# Altium schematic symbol library malvega_pcb.SchLib: 53 symbols
Pins are listed as number, name and electrical type; pins without a type are passive.

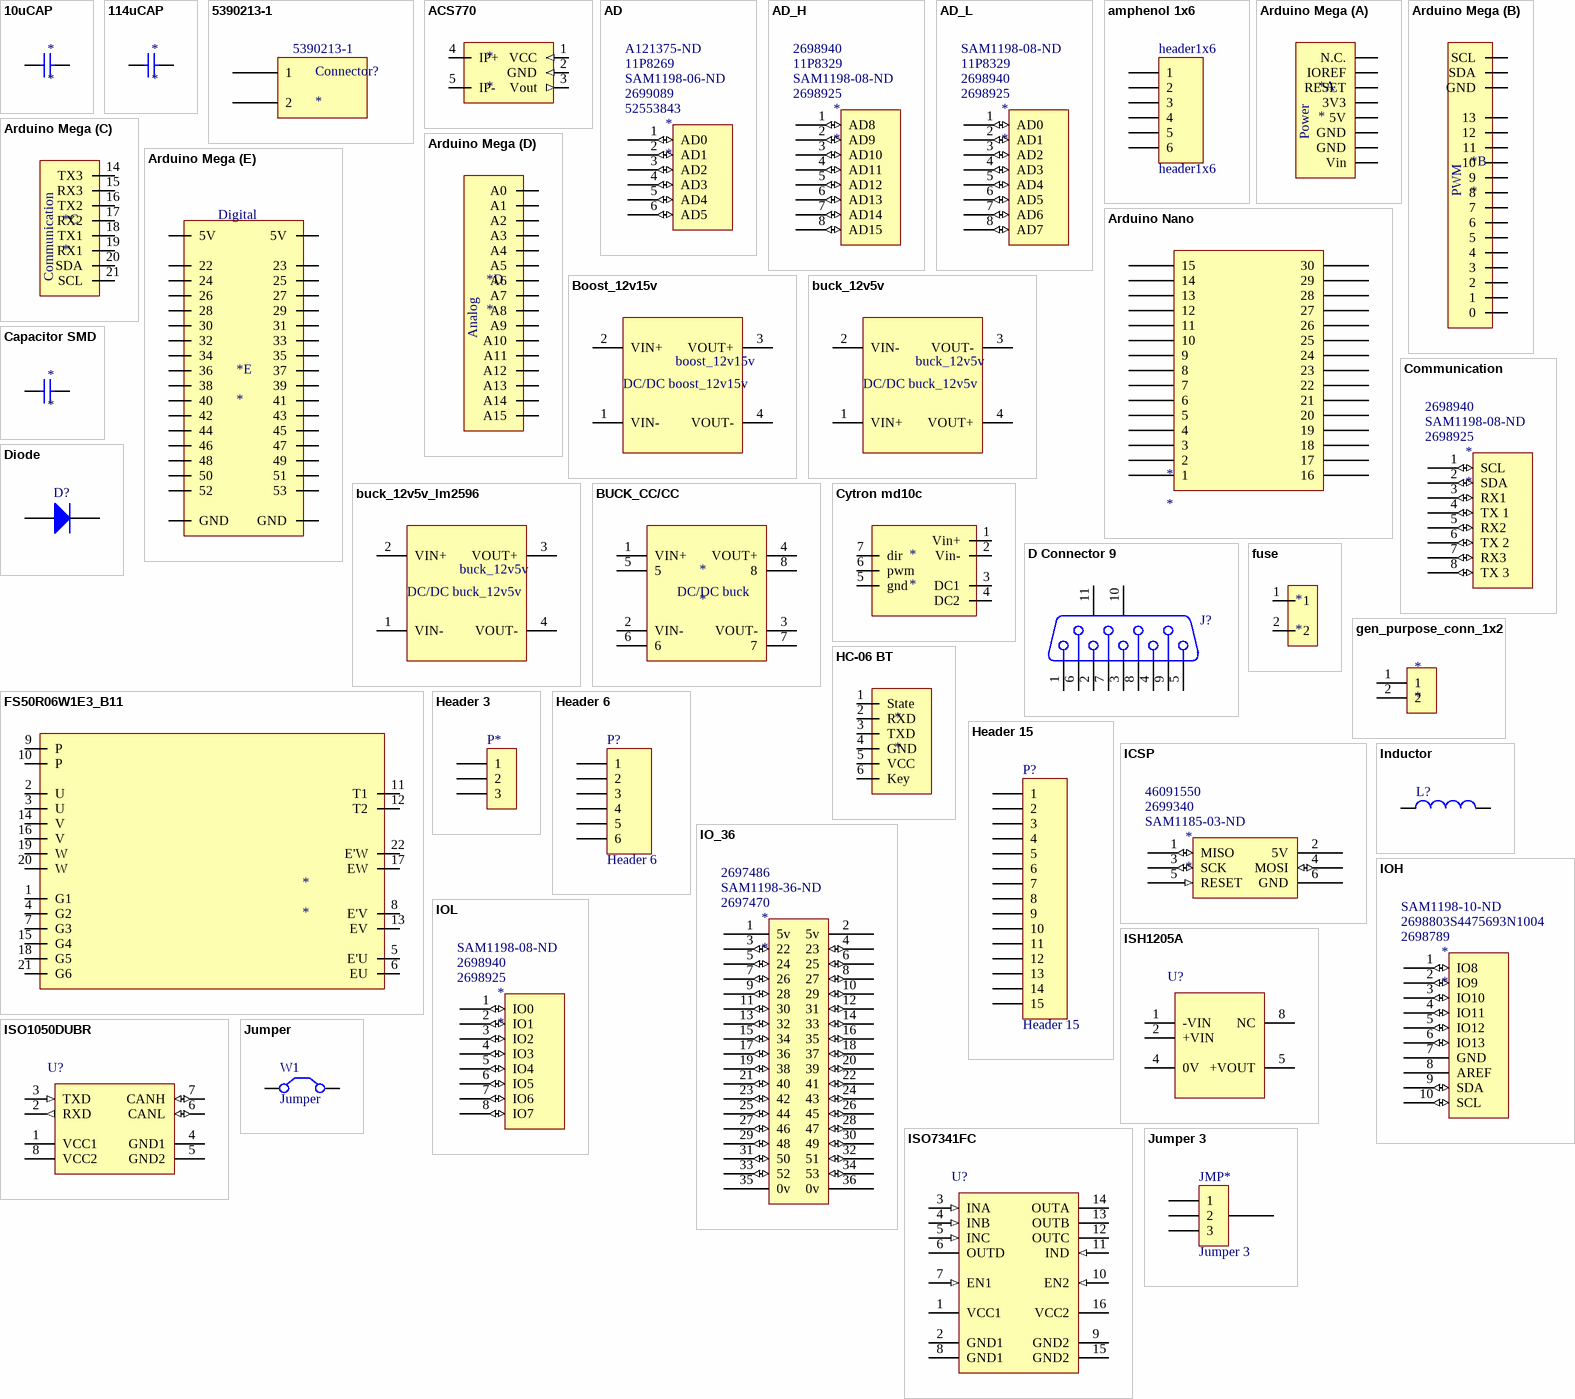
[diagram p0: symbols 10uCAP to Jumper 3]

## 10uCAP
designator *
VPN: 75-MKP1848610704K2
footprint 10uCAP
pins: 1, 2

## 114uCAP
designator *
VPN: 505-DCP5-114/900/10
footprint 114uCAP (10uCAP)
pins: 1, 2

## 5390213-1
designator Connector?  Manufacturer Part Number: 5390213-1
CONN SKT DIMM 100POS PCB; Manufacturer: TE Connectivity AMP Connectors; Number of Positions: 100; Memory Type: DRAM; Standards: MO-161; Supplier 1: Digi-Key; RoHS: RoHS Compliant; Category: Connectors, Interconnects; Stock 1: 880; Pricing 1: 1=3.8, 10=3.648, 50=3.1916, 100=3.0397, 250=2.65972, 500=2.58372, 1000=2.20377, 2500=2.05178 (EUR); Packaging: Tube; Part Status: Active; Connector Style: DIMM; Mounting Type: Through Hole; Features: Board Guide, Latches; Mounting Feature: Normal, Standard - Top; Contact Finish: Gold; Contact Finish Thickness: 15µin (0.38µm); ComponentLink1URL: http://www.te.com/commerce/DocumentDelivery/DDEController?Action=srchrtrv&DocNm=5390213&DocType=Customer+Drawing&DocLang=English; ComponentLink1Description: http://www.te.com/commerce/DocumentDelivery/DDEController?Action=srchrtrv&DocNm=5390213&DocType=Customer+Drawing&DocLang=English; Supplier Part Number 1: A121375-ND
pins: 1, 2

## ACS770
designator *
footprint ACS770 (Connector; Header; 3 Position)
pins: 1 VCC (in), 2 GND (in), 3 Vout (out), 4 IP+ (power), 5 IP- (power)

## AD
designator *  Supplier Part Number 1: 52553843  Supplier Part Number 2: 2699089  Supplier Part Number 3: SAM1198-06-ND  Supplier Part Number 4: 11P8269  Supplier Part Number 5: A121375-ND
Supplier 1: Arrow; Supplier 2: Arrow; Supplier 3: Digi-Key; Supplier 4: Newark; Supplier 5: Digi-Key
footprint Header 6x1 8.5mm (Stackable 6 pin header)
pins: 1 AD0 (io), 2 AD1 (io), 3 AD2 (io), 4 AD3 (io), 5 AD4 (io), 6 AD5 (io)

## AD_H
designator *  Supplier Part Number 1: 2698925  Supplier Part Number 2: SAM1198-08-ND  Supplier Part Number 3: 11P8329  Supplier Part Number 4: 2698940
Supplier 1: Arrow; Supplier 2: Digi-Key; Supplier 3: Newark; Supplier 4: Arrow
footprint Header 8x1 8.5mm (Stackable 8 pin header)
pins: 1 AD8 (io), 2 AD9 (io), 3 AD10 (io), 4 AD11 (io), 5 AD12 (io), 6 AD13 (io), 7 AD14 (io), 8 AD15 (io)

## AD_L
designator *  Supplier Part Number 1: 2698925  Supplier Part Number 2: 2698940  Supplier Part Number 3: 11P8329  Supplier Part Number 4: SAM1198-08-ND
Supplier 1: Arrow; Supplier 2: Arrow; Supplier 3: Newark; Supplier 4: Digi-Key
footprint Header 8x1 8.5mm (Stackable 8 pin header)
pins: 1 AD0 (io), 2 AD1 (io), 3 AD2 (io), 4 AD3 (io), 5 AD4 (io), 6 AD5 (io), 7 AD6 (io), 8 AD7 (io)

## amphenol 1x6
designator header1x6, comment header1x6
Header, 6-Pin; LatestRevisionDate: 17-Jul-2002; LatestRevisionNote: Re-released for DXP Platform.; Publisher: Altium Limited
footprint amphenol 1x6 (Stackable 6 pin header)
pins: 1, 2, 3, 4, 5, 6

## Arduino Mega
designator *
footprint Arduino Mega
part A pins: 3V3, 5V, GND1 GND, GND2 GND, IOREF, NC N.C., RESET, Vin
part B pins: 0, 1, 2, 3, 4, 5, 6, 7, 8, 9, 10, 11, 12, 13, GND3 GND, SCL, SDA
part C pins: 14 TX3, 15 RX3, 16 TX2, 17 RX2, 18 TX1, 19 RX1, 20 SDA, 21 SCL
part D pins: A0, A1, A2, A3, A4, A5, A6, A7, A8, A9, A10, A11, A12, A13, A14, A15
part E pins: 5V_2 5V, 5V_3 5V, 22, 23, 24, 25, 26, 27, 28, 29, 30, 31, 32, 33, 34, 35, 36, 37, 38, 39, 40, 41, 42, 43, 44, 45, 46, 47, 48, 49, 50, 51, 52, 53, GND4 GND, GND5 GND
part A text: Power
part B text: PWM
part C text: Communication
part D text: Analog
part E text: Digital

## Arduino Nano
designator *
footprint ARDUINO NANO
pins: 1, 2, 3, 4, 5, 6, 7, 8, 9, 10, 11, 12, 13, 14, 15, 16, 17, 18, 19, 20, 21, 22, 23, 24, 25, 26, 27, 28, 29, 30

## Boost_12v15v
designator boost_12v15v  (value not drawn)
footprint Boost_conv_12/15V
pins: 1 VIN- (power) "1", 2 VIN+ "2", 3 VOUT+ (power) "4", 4 VOUT- (power) "4"
text: DC/DC boost_12v15v

## buck_12v5v
designator buck_12v5v  (value not drawn)
footprint Buck_conv_12/5V
pins: 1 VIN+ (power) "1", 2 VIN- "2", 3 VOUT- (power) "4", 4 VOUT+ (power) "4"
text: DC/DC buck_12v5v

## buck_12v5v_lm2596
designator buck_12v5v  (value not drawn)
footprint Buck_conv_12/5V lm2596
pins: 1 VIN- (power) "1", 2 VIN+ "2", 3 VOUT+ (power) "4", 4 VOUT- (power) "4"
text: DC/DC buck_12v5v

## BUCK_CC/CC
designator *
footprint BUCK_CC/CC
pins: 1 VIN+ (power) "1", 2 VIN- "2", 3 VOUT- (power) "4", 4 VOUT+ (power) "4", 5, 6, 7, 8
text: DC/DC buck

## Capacitor SMD
designator *
Capacitor SMD
pins: 1, 2

## Communication
designator *  Supplier Part Number 1: 2698925  Supplier Part Number 2: SAM1198-08-ND  Supplier Part Number 3: 2698940
Supplier 1: Arrow; Supplier 2: Digi-Key; Supplier 3: Arrow
footprint Header 8x1 8.5mm (Stackable 8 pin header)
pins: 1 SCL (io), 2 SDA (io), 3 RX1 (io), 4 TX 1 (io), 5 RX2 (io), 6 TX 2 (io), 7 RX3 (io), 8 TX 3 (io)

## Cytron md10c
designator *
footprint Cytron md10c
pins: 1 Vin+, 2 Vin-, 3 DC1, 4 DC2, 5 gnd, 6 pwm, 7 dir

## D Connector 9
designator J?
Receptacle Assembly, 9 Position, Right Angle; PackageDocument: O; Positions: 9; Published: 15-Jun-2001; LatestRevisionDate: 17-Jul-2002; LatestRevisionNote: Re-released for DXP Platform.; DatasheetDocument: 1-Sep-1999; PackageReference: 788750; Publisher: Altium Limited; Orientation: Right Angle; Gender: Receptacle
footprint DSUB1.385-2H9 (Connector; D Subminiature; 9 Position; Right Angle; Pitch 1.385 mm)
signal-integrity model Connector
pins: 1, 2, 3, 4, 5, 6, 7, 8, 9, 10 MH1, 11 MH2

## Diode
designator D?
Default Diode; Published: 8-Jun-2000; LatestRevisionDate: 17-Jul-2002; LatestRevisionNote: Re-released for DXP Platform.; PackageVersion: Sep-1996; PackageReference: SMC; Publisher: Altium Limited; PackageDescription: DO-214-AB/SMC; 2 C-Bend Leads; Body 7.9 x 5.9 mm, inc. leads (LxW); Code_JEDEC: DO-214-AB
pins: 1 A, 2 K

## FS50R06W1E3_B11
designator *
footprint FS50R06W1E3_B11
pins: 1 G1 (power), 2 U (power), 3 U (power), 4 G2 (power), 5 E'U (power), 6 EU (power), 7 G3 (power), 8 E'V (power), 9 P (power), 10 P (power), 11 T1 (power), 12 T2 (power), 13 EV (power), 14 V (power), 15 G4 (power), 16 V (power), 17 EW (power), 18 G5 (power), 19 W (power), 20 W (power), 21 G6 (power), 22 E'W (power)

## fuse
designator *
footprint Fuse
pins: 1, 2

## gen_purpose_conn_1x2
designator *
footprint connector1x2_parafuso (Connector; Header; 2 Position)
pins: 1, 2

## HC-06 BT
designator *
footprint HC-06 BT
pins: 1 State, 2 RXD, 3 TXD, 4 GND, 5 VCC, 6 Key

## Header 3
designator P*  (value not drawn)
Header, 3 pin
signal-integrity model Connector
pins: 1, 2, 3

## Header 6
designator P?
Header, 6-Pin; LatestRevisionDate: 17-Jul-2002; LatestRevisionNote: Re-released for DXP Platform.; Publisher: Altium Limited
footprint HDR1X6 (Connector; Header; 6 Position)
signal-integrity model Connector
pins: 1, 2, 3, 4, 5, 6

## Header 15
designator P?
Header, 15-Pin; LatestRevisionDate: 17-Jul-2002; LatestRevisionNote: Re-released for DXP Platform.; Publisher: Altium Limited
footprint HDR1X15 (Connector; Header; 15 Position)
signal-integrity model Connector
pins: 1, 2, 3, 4, 5, 6, 7, 8, 9, 10, 11, 12, 13, 14, 15

## ICSP
designator *  Supplier Part Number 1: SAM1185-03-ND  Supplier Part Number 2: 2699340  Supplier Part Number 3: 46091550
Supplier 1: Digi-Key; Supplier 2: Arrow; Supplier 3: Arrow
footprint ICSP
pins: 1 MISO (io), 2 5V (power), 3 SCK (io), 4 MOSI (io), 5 RESET (in), 6 GND (power)

## Inductor
designator L?
Inductor; Code_IEC: 1005; Published: 8-Jun-2000; LatestRevisionDate: 29-May-2009; LatestRevisionNote: IPC-7351 Footprint Added.; PackageReference: 0402-A; Publisher: Altium Limited; PackageDescription: Chip Inductor; Code_JEITA: 0402
footprint 0402-A (Chip Inductor, Body 1.0x0.5mm, IPC High Density)
footprint INDC1608L (Chip Inductor, Body 1.6x0.8mm, IPC High Density)
footprint 2029 (Chip Inductor, Body 2.0x1.2mm, IPC High Density)
footprint 0603 (Chip Inductor, Body 0.6x0.3mm, IPC High Density)
footprint INDC3216 (Chip Inductor, Body 3.2x1.6mm, IPC High Density)
footprint INDC4532 (Chip Inductor, Body 4.5x3.2mm, IPC High Density)
simulation model INDUCTOR (Inductor)
signal-integrity model Inductor
pins: 1, 2

## IO_36
designator *  Supplier Part Number 1: 2697470  Supplier Part Number 2: SAM1198-36-ND  Supplier Part Number 3: 2697486
Supplier 1: Arrow; Supplier 2: Digi-Key; Supplier 3: Arrow
footprint HEADER 36X 8MM (Stackable 10 pin header)
pins: 1 5v (power), 2 5v (power), 3 22 (io) "Digital 22", 4 23 (io) "Digital 23", 5 24 (io) "Digital 24", 6 25 (io) "Digital 25", 7 26 (io) "Digital 26", 8 27 (io) "Digital 27", 9 28 (io) "Digital 28", 10 29 (io) "Digital 29", 11 30 (io) "Digital 30", 12 31 (io) "Digital 31", 13 32 (io) "Digital 32", 14 33 (io) "Digital 33", 15 34 (io) "Digital 34", 16 35 (io) "Digital 35", 17 36 (io) "Digital 36", 18 37 (io) "Digital 37", 19 38 (io) "Digital 38", 20 39 (io) "Digital 39", 21 40 (io) "Digital 40", 22 41 (io) "Digital 41", 23 42 (io) "Digital 42", 24 43 (io) "Digital 43", 25 44 (io) "Digital 44", 26 45 (io) "Digital 45", 27 46 (io) "Digital 46", 28 47 (io) "Digital 47", 29 48 (io) "Digital 48", 30 49 (io) "Digital 49", 31 50 (io) "Digital 50", 32 51 (io) "Digital 51", 33 52 (io) "Digital 52", 34 53 (io) "Digital 53", 35 0v (power), 36 0v (power)

## IOH
designator *  Supplier Part Number 1: 2698789  Supplier Part Number 2: 2698803S4475693N1004  Supplier Part Number 3: SAM1198-10-ND
Supplier 1: Arrow; Supplier 2: Arrow; Supplier 3: Digi-Key
footprint Header 10x1 8.5mm (Stackable 10 pin header)
pins: 1 IO8 (io), 2 IO9 (io), 3 IO10 (io), 4 IO11 (io), 5 IO12 (io), 6 IO13 (io), 7 GND (power), 8 AREF, 9 SDA (io), 10 SCL (io)

## IOL
designator *  Supplier Part Number 1: 2698925  Supplier Part Number 2: 2698940  Supplier Part Number 3: SAM1198-08-ND
Supplier 1: Arrow; Supplier 2: Arrow; Supplier 3: Digi-Key
footprint Header 8x1 8.5mm (Stackable 8 pin header)
pins: 1 IO0 (io), 2 IO1 (io), 3 IO2 (io), 4 IO3 (io), 5 IO4 (io), 6 IO5 (io), 7 IO6 (io), 8 IO7 (io)

## ISH1205A
designator U?
Isolated Module DC DC Converter 1 Output 5V 400mA 10.8V - 13.2V Input
footprint DUB8_M (SOP, 8-Leads, Body 9.5x6.62mm, Pitch 2.54mm, IPC Low Density)
footprint DUB8_L (SOP, 8-Leads, Body 9.5x6.62mm, Pitch 2.54mm, IPC High Density)
footprint DUB8_M (SOP, 8-Leads, Body 9.5x6.62mm, Pitch 2.54mm, IPC Low Density)
pins: 1 -VIN (power), 2 +VIN (power), 4 0V (power), 5 +VOUT (power), 8 NC (power)

## ISO1050DUBR
designator U?
Isolated CAN Transceiver, -55 to 105 degC, 8-pin SOP (DUB), Green (RoHS & no Sb/Br)
footprint DUB8_M (SOP, 8-Leads, Body 9.5x6.62mm, Pitch 2.54mm, IPC Low Density)
footprint DUB8_L (SOP, 8-Leads, Body 9.5x6.62mm, Pitch 2.54mm, IPC High Density)
footprint DUB8_M (SOP, 8-Leads, Body 9.5x6.62mm, Pitch 2.54mm, IPC Low Density)
pins: 1 VCC1 (power), 2 RXD (out), 3 TXD (in), 4 GND1 (power), 5 GND2 (power), 6 CANL (io), 7 CANH (io), 8 VCC2 (power)

## ISO7341FC
designator U?
25 Mbps Quad Channels, 3 / 1, Digital Isolator, 3.3 V / 5 V, -40 to +125 degC, 16-pin SOIC (DW), Green (RoHS & no Sb/Br); Manufacturer: Texas Instruments; PartNumber: ISO7241CDWR; Datarate(Mbps): 25; Input Noise Filter: Yes; Insulation Rating(VRMS): 2500; Prop Delay(Max)(ns): 42; Rating: Catalog; Supply Voltage(s)(V): 3.3, 5; TTL/CMOS Input Threshold: TTL; DatasheetVersion: SLLS868N; PackageVersion: 4040000-2/G, 01/2011; PackageReference: DW0016A; PackageDescription: 16-Pin Plastic Small Outline, Body 10.30 x 7.50 mm, Pitch 1.27 mm; Supplier 1: Digi-Key; Supplier Part Number 1: ISO7241CDWR-ND; Supplier 2: Newark; Supplier Part Number 2: 73M3156; Supplier 3: Mouser; Supplier Part Number 3: 595-ISO7241CDWR; SubFamily: Isolator; Thermal Shutdown: No; MountType: SMT; Code_JEDEC: MS-013; ComponentLink1Description: Manufacturer URL; ComponentLink1URL: http://www.ti.com/; ComponentLink2Description: Datasheet; ComponentLink2URL: http://www.ti.com/general/docs/lit/getliterature.tsp?genericPartNumber=ISO7241C&fileType=pdf; ComponentLink3Description: Package Specification; ComponentLink3URL: http://www.ti.com/litv/pdf/msoi003g; ComponentLink4Description: SamplesURL; ComponentLink4URL: http://www.ti.com/product/iso7241c#samples
footprint DW0016A_N (SOIC, 16-Leads, Body 10.5x7.6mm, Pitch 1.27mm, IPC Medium Density)
footprint DW0016A_L (SOIC, 16-Leads, Body 10.5x7.6mm, Pitch 1.27mm, IPC High Density)
footprint DW0016A_M (SOIC, 16-Leads, Body 10.5x7.6mm, Pitch 1.27mm, IPC Low Density)
pins: 1 VCC1 (power), 2 GND1 (power), 3 INA (in), 4 INB (in), 5 INC (in), 6 OUTD (hiz), 7 EN1 (in), 8 GND1 (power), 9 GND2 (power), 10 EN2 (in), 11 IND (in), 12 OUTC (hiz), 13 OUTB (hiz), 14 OUTA (hiz), 15 GND2 (power), 16 VCC2 (power)

## Jumper
designator W1
Jumper Wire; Published: 24-Mar-1999; LatestRevisionDate: 17-Jul-2002; LatestRevisionNote: Re-released for DXP Platform.; PackageReference: RAD-0.2; Publisher: Altium Limited; PackageDescription: Radial Cap, Thru-Hole; 2 Leads; 0.2 in Pin Spacing
footprint RAD-0.2 (Radial Cap, Thru-Hole; 2 Leads; 0.2 in Pin Spacing)
pins: 1 C1, 2 C2

## Jumper 3
designator JMP*
Jumper, 3 pin
signal-integrity model Connector
pins: 1, 2, 2, 3

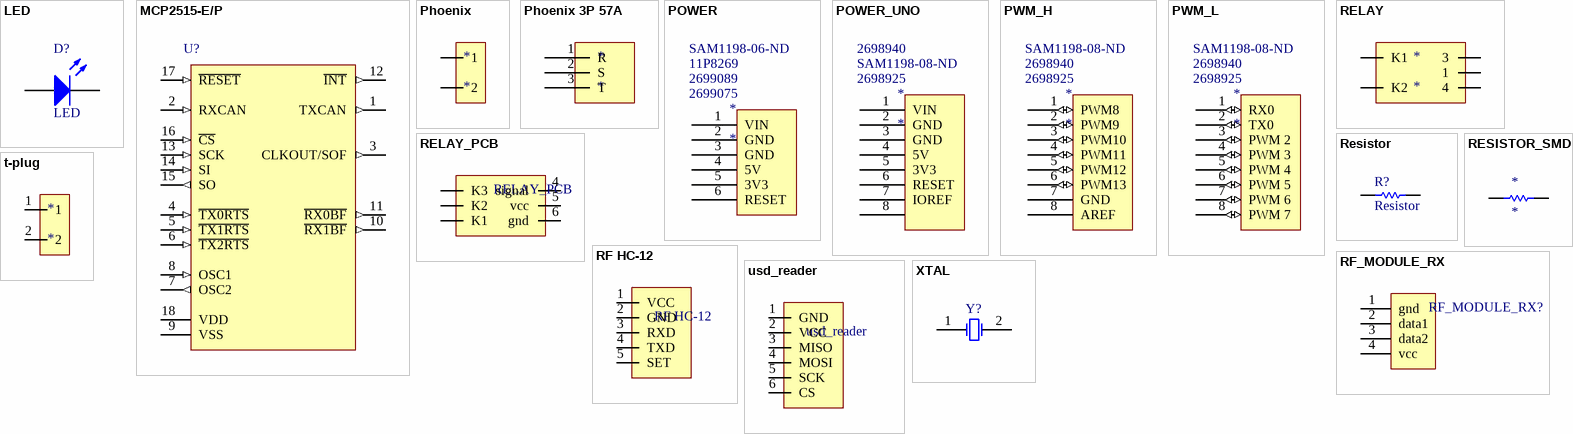
[diagram p1: symbols LED to XTAL]

## LED
designator D?
footprint DIODE_1206 (Chip Diode; Body 3.2 x 1.6 mm (LxW typ))
pins: 1 A, 2 K

## MCP2515-E/P
designator U?
Stand-Alone CAN Controller With SPI Interface, 18-Pin PDIP, Extended Temperature; Manufacturer: Microchip; PartNumber: MCP2515-E/P; DatasheetVersion: revF, Oct-2010; PackageVersion: revBB, Aug-2009; PackageReference: PDIP300-P18; PackageDescription: 18-Lead Plastic Dual In-Line (P) - 300 mil Body [PDIP]; Supplier 1: Digi-Key; Supplier Part Number 1: MCP2515-E/P-ND; Supplier 2: Newark; Supplier Part Number 2: 29H7133; Supplier 3: Mouser; Supplier Part Number 3: 579-MCP2515-E/P; Mounting Technology: Through Hole; Code_JEDEC: MS-001; ComponentLink1Description: Manufacturer URL; ComponentLink1URL: http://www.microchip.com/; ComponentLink2Description: Datasheet; ComponentLink2URL: http://ww1.microchip.com/downloads/en/DeviceDoc/21801f.pdf; ComponentLink3Description: Package Specification; ComponentLink3URL: http://www.microchip.com/stellent/groups/techpub_sg/documents/packagingspec/en012702.pdf
footprint SOIC-SO18_M (SOIC, 18-Leads, Body 11.5x7.5mm, Pitch 1.27mm, IPC Low Density)
pins: 1 TXCAN (out), 2 RXCAN (in), 3 CLKOUT/SOF (out), 4 ~{TX0RTS} (in), 5 ~{TX1RTS} (in), 6 ~{TX2RTS} (in), 7 OSC2 (out), 8 OSC1 (in), 9 VSS (power), 10 ~{RX1BF} (out), 11 ~{RX0BF} (out), 12 ~{INT} (out), 13 SCK (in), 14 SI (in), 15 SO (out), 16 ~{CS} (in), 17 ~{RESET} (in), 18 VDD (power)

## Phoenix
designator *
footprint Phoenix
pins: 1, 2

## Phoenix 3P 57A
designator *
footprint Phoenix 3p 57A
pins: 1 R, 2 S, 3 T

## POWER
designator *  Supplier Part Number 1: 2699075  Supplier Part Number 2: 2699089  Supplier Part Number 3: 11P8269  Supplier Part Number 4: SAM1198-06-ND
Supplier 1: Arrow; Supplier 2: Arrow; Supplier 3: Newark; Supplier 4: Digi-Key
footprint Header 6x1 8.5mm (Stackable 6 pin header)
pins: 1 VIN (power), 2 GND (power), 3 GND (power), 4 5V (power), 5 3V3 (power), 6 RESET

## POWER_UNO
designator *  Supplier Part Number 1: 2698925  Supplier Part Number 2: SAM1198-08-ND  Supplier Part Number 3: 2698940
Supplier 1: Arrow; Supplier 2: Digi-Key; Supplier 3: Arrow
footprint Header 8x1 8.5mm (Stackable 8 pin header)
pins: 1 VIN (power), 2 GND (power), 3 GND (power), 4 5V (power), 5 3V3 (power), 6 RESET, 7 IOREF (power), 8

## PWM_H
designator *  Supplier Part Number 1: 2698925  Supplier Part Number 2: 2698940  Supplier Part Number 3: SAM1198-08-ND
Supplier 1: Arrow; Supplier 2: Arrow; Supplier 3: Digi-Key
footprint Header 8x1 8.5mm (Stackable 8 pin header)
pins: 1 PWM8 (io) "PWM 8", 2 PWM9 (io) "PWM 9", 3 PWM10 (io) "PWM 10", 4 PWM11 (io) "PWM 11", 5 PWM12 (io) "PWM 12", 6 PWM13 (io) "PWM 13", 7 GND (power), 8 AREF

## PWM_L
designator *  Supplier Part Number 1: 2698925  Supplier Part Number 2: 2698940  Supplier Part Number 3: SAM1198-08-ND
Supplier 1: Arrow; Supplier 2: Arrow; Supplier 3: Digi-Key
footprint Header 8x1 8.5mm (Stackable 8 pin header)
pins: 1 RX0 (io) "PWM 0 & RX0", 2 TX0 (io) "PWM 1 & TX0", 3 PWM 2 (io), 4 PWM 3 (io), 5 PWM 4 (io), 6 PWM 5 (io), 7 PWM 6 (io), 8 PWM 7 (io)

## RELAY
designator *
footprint RELAY
pins: 1, 2 K1, 3, 4, 5 K2

## RELAY_PCB
designator RELAY_PCB  (value not drawn)
footprint RELAY_PCB
pins: 1 K1, 2 K2, 3 K3, 4 signal, 5 vcc, 6 gnd

## Resistor
designator R?
pins: 1, 2

## RESISTOR_SMD
designator *
footprint RESC_1206 (Chip Resistor, Body 3.2x1.6mm, IPC Low Density)
pins: 1, 2

## RF HC-12
designator RF HC-12  (value not drawn)
footprint RF HC-12
pins: 1 VCC, 2 GND, 3 RXD, 4 TXD, 5 SET

## RF_MODULE_RX
designator RF_MODULE_RX?, comment RF_MODULE_RX?  (value not drawn)
footprint RF_MODULE_433
pins: 1 gnd, 2 data1, 3 data2, 4 vcc

## t-plug
designator *
footprint t-plug
pins: 1, 2

## usd_reader
designator usd_reader  (value not drawn)
footprint uSD Reader
pins: 1 GND, 2 VCC, 3 MISO, 4 MOSI, 5 SCK, 6 CS

## XTAL
designator Y?
Crystal Oscillator; Published: 8-Jun-2000; LatestRevisionDate: 17-Jul-2002; LatestRevisionNote: Re-released for DXP Platform.; PackageReference: R38; Publisher: Altium Limited; PackageDescription: Crystal, Thru-Hole; 2 Leads; Body 3.1 x 8.2 mm (Dia.xH)
footprint R38 (Crystal, Thru-Hole; 2 Leads; Body 3.1 x 8.2 mm (Dia.xH))
simulation model XTAL (Spice Subcircuit)
pins: 1 OSC1, 2 OSC2